# EAGLE library part 219-06 (library switch-dil)
DIP SWITCH
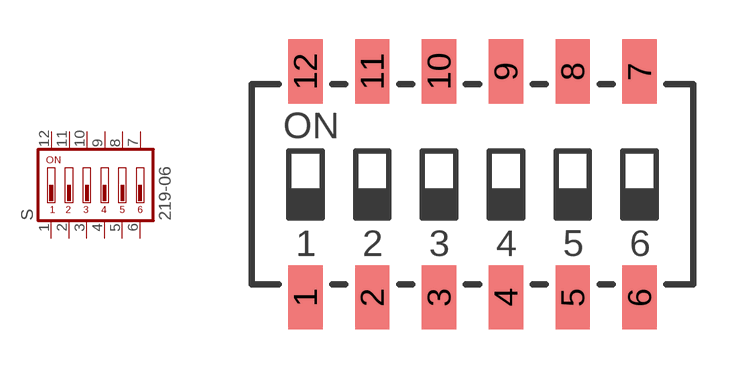
[diagram p63: symbol with the pads of 219-06; footprint 219-06]

Designator prefix S

## 219-06  [219-06]
1  1  pas
2  2  pas
3  3  pas
4  4  pas
5  5  pas
6  6  pas
7  7  pas
8  8  pas
9  9  pas
10  10  pas
11  11  pas
12  12  pas

## Footprint 219-06 (pad centres in mm)
DIP SWITCH SMT 219 Series, CTS Electrocomponents
smd 1.3 x 2.44: 1 -6.35,-4.3; 2 -3.81,-4.3; 3 -1.27,-4.3; 4 1.27,-4.3; 5 3.81,-4.3; 6 6.35,-4.3; 7 6.35,4.3; 8 3.81,4.3; 9 1.27,4.3; 10 -1.27,4.3; 11 -3.81,4.3; 12 -6.35,4.3